# Altium footprint library 3PIN对插连接器.PcbLib: 1 footprints
Each footprint in its own frame and in the unit in brackets; x right, y up, seen from the top. Pads: shape width x height; smd on the part's side, far side on the other; paste and mask are expansions set on the pad; w line width, h text height; cw(c..) or ccw(c..) is an arc to the next point about the centre after c.
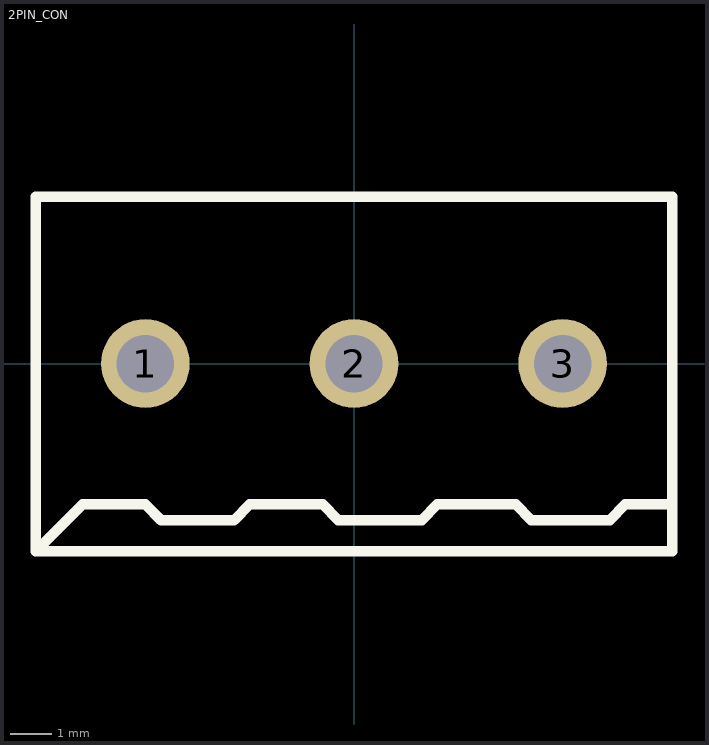
[diagram p0: the footprint, top view; thin cyan lines are the x and y axes]

## 2PIN_CON [mil] "对插连接器"
pads (3):
  round 85 hole 55: 1(-200,0) 2(0,0) 3(200,0)
Top Overlay:
  lines w10: 305,-135 260,-135 245,-150 170,-150 155,-135 80,-135 65,-150 -15,-150 -30,-135 -100,-135 -115,-150 -185,-150 -200,-135 -260,-135 -305,-180 ; -305,-180 -305,160 305,160 305,-180 -305,-180